# Altium schematic symbol library S1MFL.SCHLIB: 1 symbol
Pins are listed as number, name and electrical type; pins without a type are passive.

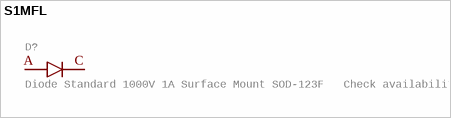
[diagram p0: symbol S1MFL]

## S1MFL
designator D?, comment Diode Standard 1000V 1A Surface Mount SOD-123F   Check availability
GateName_1: G$1; SymbolName_1: S1MFL; DESCRIPTION: Diode 1000 V 1A Surface Mount SOD-123F; MF: onsemi; LibraryName: S1MFL; DeviceSetName: S1MFL; Package: SODFL3617X108N; AVAILABILITY: In Stock; CHECK_PRICES: https://www.snapeda.com/parts/S1MFL/Onsemi/view-part/?ref=eda; MP: S1MFL; PACKAGE: SOD-123F ON Semiconductor; PRICE: None; PURCHASE-URL: https://www.snapeda.com/api/url_track_click_mouser/?unipart_id=7151124&manufacturer=onsemi&part_name=S1MFL&search_term=None; SNAPEDA_LINK: https://www.snapeda.com/parts/S1MFL/Onsemi/view-part/?ref=snap
footprint SODFL3617X108N
pins: A, C